# Altium footprint library 串口.PcbLib: 5 footprints
Each footprint in its own frame and in the unit in brackets; x right, y up, seen from the top. Pads: shape width x height; smd on the part's side, far side on the other; paste and mask are expansions set on the pad; w line width, h text height; cw(c..) or ccw(c..) is an arc to the next point about the centre after c.
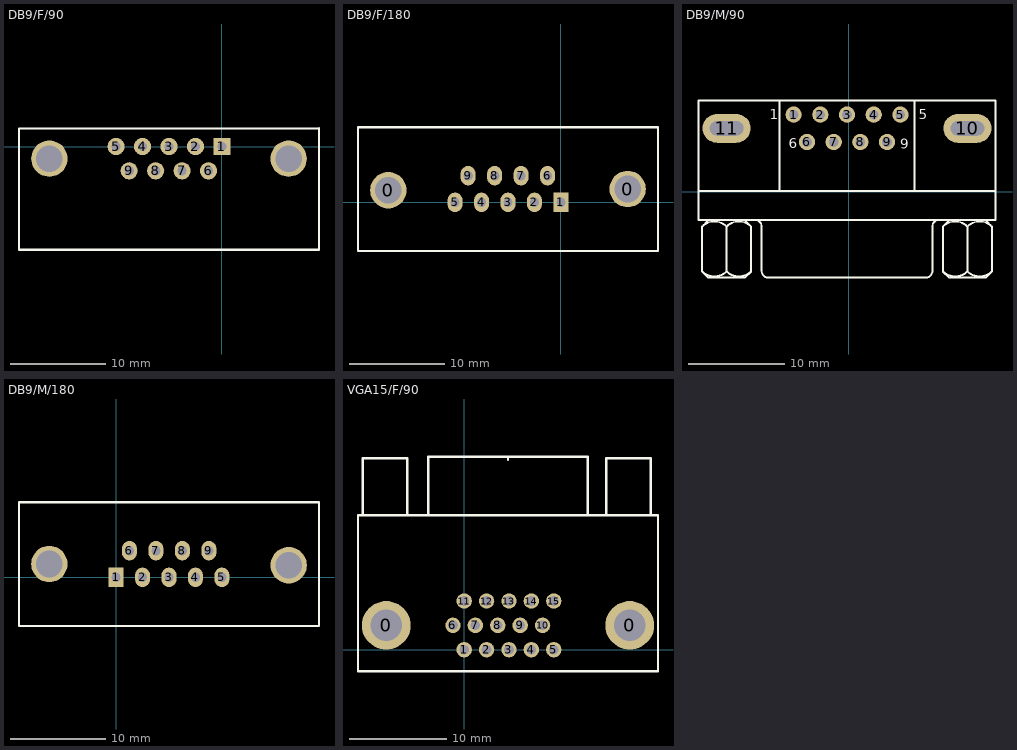
[diagram p0: the footprints below, top view; thin cyan lines are the x and y axes]

## DB9/F/90 [mm]
pads (11):
  rect 1.8x1.8 hole 0.965: 1(0,0)
  round 1.8 hole 0.965: 2(-2.769,0) 3(-5.537,0) 4(-8.306,0) 5(-11.074,0) 6(-1.397,-2.54) 7(-4.166,-2.54) 8(-6.934,-2.54) 9(-9.703,-2.54)
  round 3.8 hole 2.794: ""(-18.059,-1.27) ""(6.985,-1.27)
Top Overlay:
  lines w0.203: -21.234,-10.795 -21.234,1.905 10.16,1.905
  lines w0.254: -21.234,-10.795 10.16,-10.795 10.16,1.905
3D body "DB9RA_F-DEFAULT.STEP": height 12.55, standoff -3.5, extent -21.15,-16.63 10.16,1.77

## DB9/F/180 [mil]
pads (11):
  round 150 hole 110: 0(-711,50) 0(275,55)
  rect 62x80 hole 38: 1(0,0)
  oval 62x80 hole 38: 2(-109,0) 3(-218,0) 4(-327,0) 5(-436,0) 6(-55,110) 7(-164,110) 8(-273,110) 9(-382,110)
Top Overlay:
  lines w8: -836,310 -836,-200 400,-200
  lines w10: -836,310 400,310 400,-200
3D body "SW3dPS-Norcomp_171-009-213R911_DB9Recept_VerticalMount.STEP": height 517, standoff -186, extent -830,-195 383,299

## DB9/M/90 [mm]
pads (11):
  round 1.69 hole 1: 1(-5.715,8.001) 2(-2.945,8.001) 3(-0.175,8.001) 4(2.595,8.001) 5(5.365,8.001) 6(-4.33,5.161) 7(-1.56,5.161) 8(1.21,5.161) 9(3.98,5.161)
  oval 5x3 hole 1.5 slot 3.5 at 0 deg: 10(12.32,6.581) 11(-12.67,6.581)
Top Overlay:
  lines w0.2: -15.575,0.081 15.225,0.081 ; -15.217,-8.284 -14.582,-8.919 -10.772,-8.919 -10.137,-8.284 ; -15.217,-8.269 -15.217,-3.618 -14.582,-2.983 ; -15.217,-7.217 -15.217,-7.005 ; -12.677,-8.269 -12.677,-3.618 ; -10.772,-2.983 -10.137,-3.618 -10.137,-8.269 ; -9.735,-2.924 cw(c-9.735,-3.619) -9.04,-3.619 -9.04,-8.219 ; -9.035,-8.224 ccw(c-8.34,-8.224) -8.34,-8.919 7.99,-8.919 ccw(c7.99,-8.224) 8.685,-8.224 ; -7.175,0.081 -7.175,9.481 ; 6.825,0.081 6.825,9.481 ; 8.69,-8.219 8.69,-3.619 cw(c9.385,-3.619) 9.385,-2.924 ; 9.783,-8.284 10.418,-8.919 14.228,-8.919 14.863,-8.284 ; 9.783,-8.269 9.783,-3.618 10.418,-2.983 ; 9.783,-7.217 9.783,-7.005 ; 12.323,-8.269 12.323,-3.618 ; 14.228,-2.983 14.863,-3.618 14.863,-8.269 ; -15.575,-2.919 15.225,-2.919 15.225,9.481 -15.575,9.481 -15.575,-2.919
  lines w0.203: -15.219,-3.616 cw(c-13.947,-4.888) -12.675,-3.616 ; -15.217,-8.269 ccw(c-13.945,-6.997) -12.673,-8.269 ; -12.682,-8.269 ccw(c-11.409,-6.997) -10.137,-8.269 ; -12.679,-3.616 cw(c-11.407,-4.888) -10.135,-3.616 ; 9.781,-3.616 cw(c11.053,-4.888) 12.325,-3.616 ; 9.783,-8.269 ccw(c11.055,-6.997) 12.327,-8.269 ; 12.318,-8.269 ccw(c13.591,-6.997) 14.863,-8.269 ; 12.321,-3.616 cw(c13.593,-4.888) 14.865,-3.616
  text "9" at 5.365,4.451 h1.02
  text "5" at 7.285,7.501 h1.02
  text "1" at -8.215,7.501 h1.02
  text "6" at -6.215,4.501 h1.02
3D body "DRB-9M.STEP": height 12.75, standoff -3.65, extent -15.425,-7.944 15.075,9.756

## DB9/M/180 [mil]
pads (11):
  rect 62x80 hole 38: 1(0,0)
  oval 62x80 hole 38: 2(109,0) 3(218,0) 4(327,0) 5(436,0) 6(55,110) 7(164,110) 8(273,110) 9(382,110)
  round 150 hole 110: ""(-275,55) ""(711,50)
Top Overlay:
  lines w8: -400,-200 836,-200 836,310
  lines w10: -400,-200 -400,310 836,310
3D body "SW3DPS-DB9_M-DEFAULT.STEP": height 480.31, standoff -137.4, extent -400.22,-200 847.42,311.81

## VGA15/F/90 [mm]
pads (17):
  round 5 hole 3.25: 0(-8,2.5) 0(17,2.5)
  round 1.58 hole 1: 1(0,0) 2(2.3,0) 3(4.6,0) 4(6.9,0) 5(9.2,0) 6(-1.15,2.5) 7(1.15,2.5) 8(3.45,2.5) 9(5.75,2.5) 10(8.05,2.5) 11(0,5) 12(2.3,5) 13(4.6,5) 14(6.9,5) 15(9.2,5)
Top Overlay:
  lines w0.254: -10.9,-2.2 -10.9,13.8 19.9,13.8 19.9,-2.2 -10.89,-2.2 ; -10.4,13.8 -10.4,19.67 -5.83,19.67 -5.83,13.82 ; -3.7,13.8 -3.7,19.8 12.7,19.8 12.7,13.8 ; 4.5,19.5 4.5,19.8 ; 14.6,13.8 14.6,19.68 19.18,19.68 19.18,13.84
3D body "SW3dPS-Connector, D-Sub, 15 pin HD, RA, Receptacle.STEP": height 12.77, standoff -3.27, extent -11.055,-0.875 19.755,20.225